# Altium footprint library PowerBoard.PcbLib: 19 footprints (part 2 of 2)
Each footprint in its own frame and in the unit in brackets; x right, y up, seen from the top. Pads: shape width x height; smd on the part's side, far side on the other; paste and mask are expansions set on the pad; w line width, h text height; cw(c..) or ccw(c..) is an arc to the next point about the centre after c.
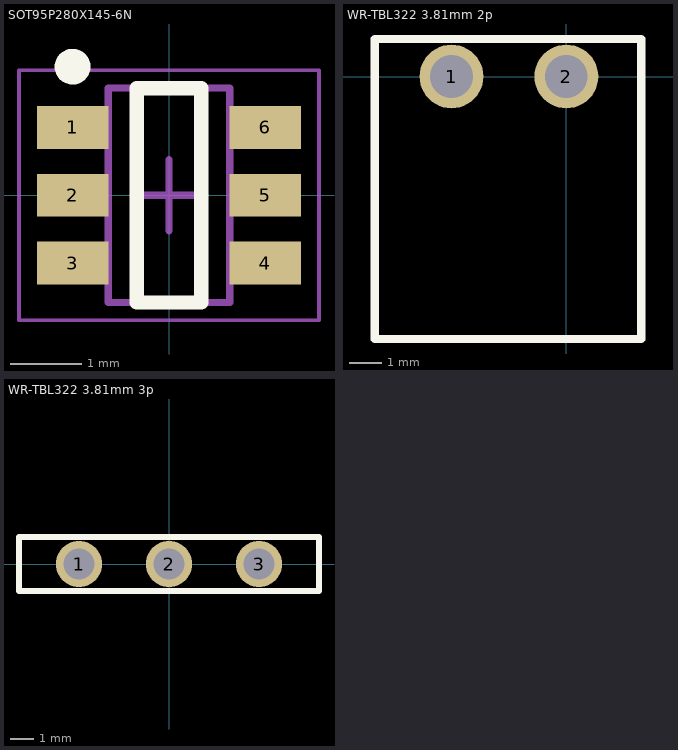
[diagram p1: the footprints below, top view; thin cyan lines are the x and y axes]

## SOT95P280X145-6N [mm] "SOT23, 6-Leads, Body 2.90x2.80mm, Pitch 0.95mm, IPC Medium Density"
height 1.45
pads (6):
  rect 1x0.6 smd: 1(-1.35,0.95) 2(-1.35,0) 3(-1.35,-0.95) 4(1.35,-0.95) 5(1.35,0) 6(1.35,0.95)
Top Overlay:
  circle w0.25: c-1.35,1.8 r0.125
  lines w0.2: -0.45,-1.5 -0.45,1.5 0.45,1.5 0.45,-1.5 -0.45,-1.5
Top Assembly:
  lines w0.1: -0.85,-1.5 0.85,-1.5 0.85,1.5 -0.85,1.5 -0.85,-1.5
  text "'.Designator'" at -0.875,-0.475 h1.5
Top Courtyard (Mech15):
  lines w0.05: -2.1,-1.75 2.1,-1.75 2.1,1.75 -2.1,1.75 -2.1,-1.75
  lines w0.1: -0.5,0 0.5,0 ; 0,-0.5 0,0.5
3D body "RJ_6_ADI.step": height 1.45, standoff 0, extent -1.499,-1.499 1.499,1.499

## WR-TBL322 3.81mm 2p [mm]
pads (2):
  round 1.95 hole 1.3: 1(-3.5,0) 2(0,0)
Top Overlay:
  lines w0.254: -5.842,-8.001 2.286,-8.001 2.286,1.143 -5.842,1.143 -5.842,-8.001
3D body "691322110002 (rev1).stp": height 7.25, standoff -3.45, extent -5.828,-8.029 2.272,1.171

## WR-TBL322 3.81mm 3p [mm]
pads (3):
  round 1.95 hole 1.3: 1(-3.81,0) 2(0,0) 3(3.81,0)
Top Overlay:
  lines w0.254: -6.35,-1.143 6.35,-1.143 6.35,-0.445 6.35,0.699 6.35,1.143 -6.35,1.143 -6.35,-1.143
3D body "691322310003 (rev1).stp": height 7.2, standoff -3.5, extent -6.31,-1.15 6.31,8.05